# Altium footprint library QFN50P450X350X100-21N.PcbLib: 1 footprints
Each footprint in its own frame and in the unit in brackets; x right, y up, seen from the top. Pads: shape width x height; smd on the part's side, far side on the other; paste and mask are expansions set on the pad; w line width, h text height; cw(c..) or ccw(c..) is an arc to the next point about the centre after c.
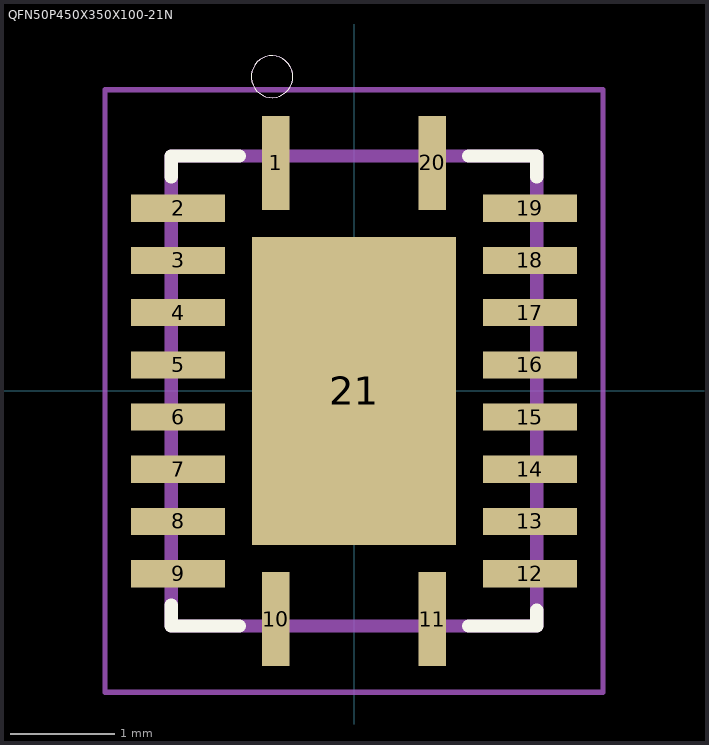
[diagram p0: the footprint, top view; thin cyan lines are the x and y axes]

## QFN50P450X350X100-21N [mm]
pads (21):
  rect 0.26x0.9 smd: 1(-0.75,2.185) 10(-0.75,-2.185) 11(0.75,-2.185) 20(0.75,2.185)
  rect 0.9x0.26 smd: 2(-1.685,1.75) 3(-1.685,1.25) 4(-1.685,0.75) 5(-1.685,0.25) 6(-1.685,-0.25) 7(-1.685,-0.75) 8(-1.685,-1.25) 9(-1.685,-1.75) 12(1.685,-1.75) 13(1.685,-1.25) 14(1.685,-0.75) 15(1.685,-0.25) 16(1.685,0.25) 17(1.685,0.75) 18(1.685,1.25) 19(1.685,1.75)
  rect 1.95x2.95 smd: 21(0,0)
Top Overlay:
  circle w0: c-0.785,3.01 r0.2
  lines w0.127: -1.75,-2.05 -1.75,-2.25 -1.1,-2.25 ; -1.75,2.05 -1.75,2.25 -1.1,2.25 ; 1.1,-2.25 1.75,-2.25 1.75,-2.1 ; 1.1,2.25 1.75,2.25 1.75,2.05
Top Paste:
  region: -0.672,0.767 0.517,0.767 0.517,-0.997 -0.672,-0.997
Mechanical 1:
  circle w0: c-0.785,3.01 r0.2
  lines w0.05: -2.385,-2.885 -2.385,2.885 2.385,2.885 2.385,-2.885 -2.385,-2.885
  lines w0.127: -1.75,-2.25 -1.75,2.25 1.75,2.25 1.75,-2.25 -1.75,-2.25
Mechanical 15:
  lines w0.15: -0.254,0 0.254,0 ; 0,-0.254 0,0.254
3D body: height 1, standoff 0, extent -1.75,-2.25 1.75,2.25